# EAGLE library part MCP23009 (library bschulz)
MCP23009 - I2C I/O Expander, 8 bit wtih interrupt and reset Characteristics: Vcc: 1.8V ~ 5.5V IOut: 25 mA IQ: 1μA Operating Temperature: -40°C to 85°C Internal Configurable Pullups 5V Tolerant Inputs Digikey: MCP23009-E/MG-ND (QFN) <https://www.digikey.com/en/products/detail/microchip-technology/MCP23009-E-MG/2021353> MCP23009T-E/SSCT-ND (SSOP) <https://www.digikey.com/en/products/detail/microchip-technology/MCP23009T-E-SS/2061222>
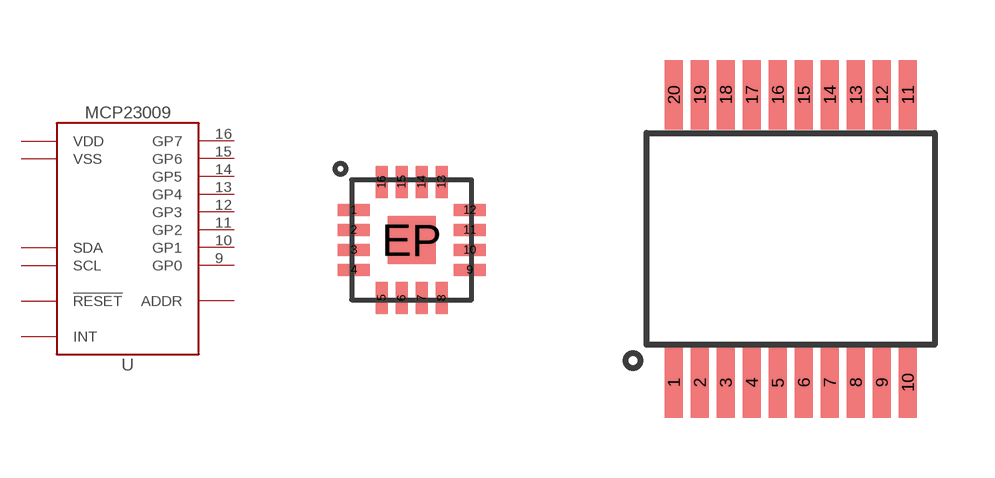
[diagram p134: symbol with the pads of QFN16_3X3; footprints QFN16_3X3, SSOP20]

Designator prefix U

## MCP23009QFN (DIGIKEY: MCP23009-E/MG-ND; MF: Microchip; MOUSER: 579-MCP23009-E/MG; MPN: MCP23009-E/MG)  [QFN16_3X3]
1  VSS  pwr
3  VDD  pwr
4  SCL  in
5  SDA
6  ADDR  in
7  !RESET  in
8  INT  out
9  GP0
10  GP1
11  GP2
12  GP3
13  GP4
14  GP5
15  GP6
16  GP7
EP  VSS  pwr

## MCP23009SSOP (DIGIKEY: MCP23009T-E/SSCT-ND; MF: Microchip; MPN: MCP23009T-E/SS)  [SSOP20]
1  VDD  pwr
3  SCL  in
4  SDA
5  ADDR  in
6  !RESET  in
7  INT  out
8  GP0
9  GP1
12  GP2
13  GP3
14  GP4
15  GP5
16  GP6
17  GP7
20  VSS  pwr

## Footprint QFN16_3X3 (pad centres in mm)
QFN - 16 Pin, 3x3mm Datasheet <https://ww1.microchip.com/downloads/en/DeviceDoc/20002121C.pdf>
smd 0.8 x 0.3: 1 -1.45,0.75; 2 -1.45,0.25; 3 -1.45,-0.25; 4 -1.45,-0.75; 9 1.45,-0.75; 10 1.45,-0.25; 11 1.45,0.25; 12 1.45,0.75
smd 0.3 x 0.8: 5 -0.75,-1.45; 6 -0.25,-1.45; 7 0.25,-1.45; 8 0.75,-1.45; 13 0.75,1.45; 14 0.25,1.45; 15 -0.25,1.45; 16 -0.75,1.45
smd 1.2 x 1.2: EP 0,0

## Footprint SSOP20 (pad centres in mm)
SSOP 20, 0.65mm pitch, 5.3mm body Ref Datasheet <http://www.microchip.com/mymicrochip/filehandler.aspx?ddocname=en021920>
smd 0.45 x 1.75: 1 -2.925,-3.6; 2 -2.275,-3.6; 3 -1.625,-3.6; 4 -0.975,-3.6; 5 -0.325,-3.6; 6 0.325,-3.6; 7 0.975,-3.6; 8 1.625,-3.6; 9 2.275,-3.6; 10 2.925,-3.6; 11 2.925,3.6; 12 2.275,3.6; 13 1.625,3.6; 14 0.975,3.6; 15 0.325,3.6; 16 -0.325,3.6; 17 -0.975,3.6; 18 -1.625,3.6; 19 -2.275,3.6; 20 -2.925,3.6